# Altium schematic symbol library antena.SchLib: 1 symbol
Pins are listed as number, name and electrical type; pins without a type are passive.

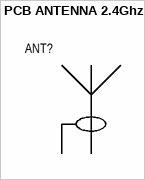
[diagram p0: symbol PCB ANTENNA 2.4Ghz]

## PCB ANTENNA 2.4Ghz
designator ANT?  (value not drawn)
footprint F-antena (2.4 Ghz fow zigbee)
pins: 1, 2 0